# Altium footprint library 61500814221.PcbLib: 1 footprints
Each footprint in its own frame and in the unit in brackets; x right, y up, seen from the top. Pads: shape width x height; smd on the part's side, far side on the other; paste and mask are expansions set on the pad; w line width, h text height; cw(c..) or ccw(c..) is an arc to the next point about the centre after c.
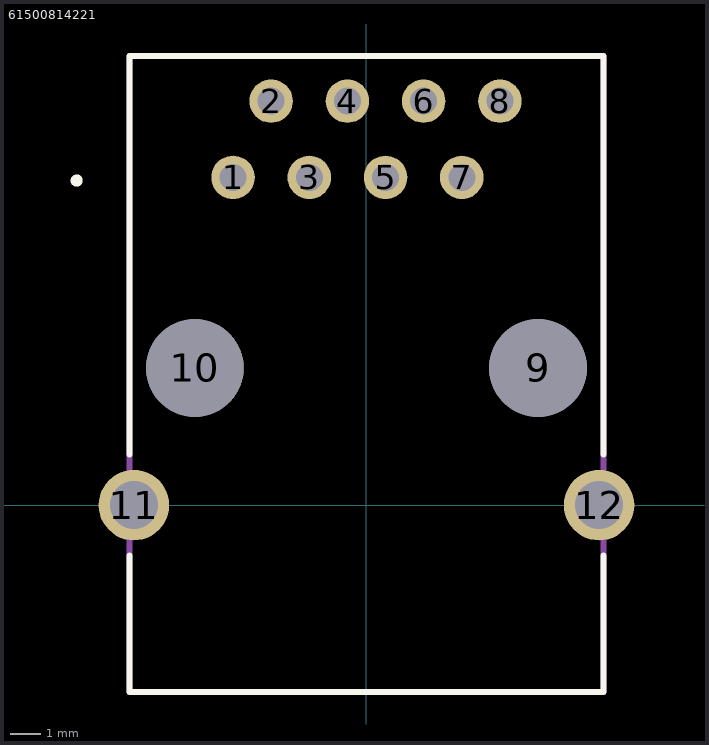
[diagram p0: the footprint, top view; thin cyan lines are the x and y axes]

## 61500814221 [mm]
pads (12):
  round 1.45 hole 0.9: 1(-4.445,10.92) 2(-3.175,13.46) 3(-1.905,10.92) 4(-0.635,13.46) 5(0.635,10.92) 6(1.905,13.46) 7(3.175,10.92) 8(4.445,13.46)
  round 3.25 hole 3.25 unplated: 9(5.715,4.57) 10(-5.715,4.57)
  round 2.35 hole 1.6: 11(-7.75,0) 12(7.75,0)
L26-Silk Screen Top (Multiple PADS layers...):
  circle w0.2: c-9.654,10.815 r0.102
  lines w0.2: -7.9,-1.68 -7.9,-6.23 7.9,-6.23 7.9,-1.68 ; -7.9,1.68 -7.9,14.97 7.9,14.97 7.9,1.68
L15 (Multiple PADS layers...):
  lines w0.2: -7.9,-6.23 7.9,-6.23 7.9,14.97 -7.9,14.97 -7.9,-6.23